# Altium schematic symbol library DFF_5PIN.SchLib: 1 symbol
Pins are listed as number, name and electrical type; pins without a type are passive.

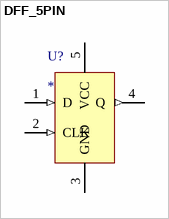
[diagram p0: symbol DFF_5PIN]

## DFF_5PIN
designator U?
pins: 1 D (in), 2 CLK (in), 3 GND (power), 4 Q (out), 5 VCC (power)